# EAGLE library part 691322310013 (library Wurth_Terminal_Blocks_Connectors_rev15d)
WR-TBL Serie 322 - 3.81mm Vertical PCB Header , 13Pins=>Code : Con_TBL_Pluggable_3.81_PCB_THT_Simple_691322310013 <http://katalog.we-online.de/media/images/eican/Con_TBL_Pluggable_3.81_PCB_THT_Simple_6913223100xx_pf2.jpg> Details see: http://katalog.we-online.de/en/em/691_322_310_0xx Created 2014-06-19, Karrer Zheng 2014 (C) Würth Elektronik
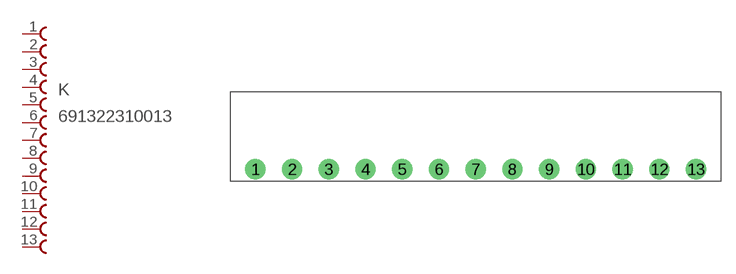
[diagram p45: symbol with the pads of 691322310013; footprint 691322310013]

Designator prefix K

## 691322310013  [691322310013]
1  1  pas
2  2  pas
3  3  pas
4  4  pas
5  5  pas
6  6  pas
7  7  pas
8  8  pas
9  9  pas
10  10  pas
11  11  pas
12  12  pas
13  13  pas

## Footprint 691322310013 (pad centres in mm)
WR-TBL Serie 322 - 3.81mm Vertical PCB Header , 13 Pins
drill 1.4: 1 -30.48,0; 2 -26.67,0; 3 -22.86,0; 4 -19.05,0; 5 -15.24,0; 6 -11.43,0; 7 -7.62,0; 8 -3.81,0; 9 0,0; 10 3.81,0; 11 7.62,0; 12 11.43,0; 13 15.24,0